# Altium footprint library SOP-8_L4.9-W3.9-P1.27-LS6.0-TL-EP-1_2022-06-29.PcbLib: 1 footprints
Each footprint in its own frame and in the unit in brackets; x right, y up, seen from the top. Pads: shape width x height; smd on the part's side, far side on the other; paste and mask are expansions set on the pad; w line width, h text height; cw(c..) or ccw(c..) is an arc to the next point about the centre after c.
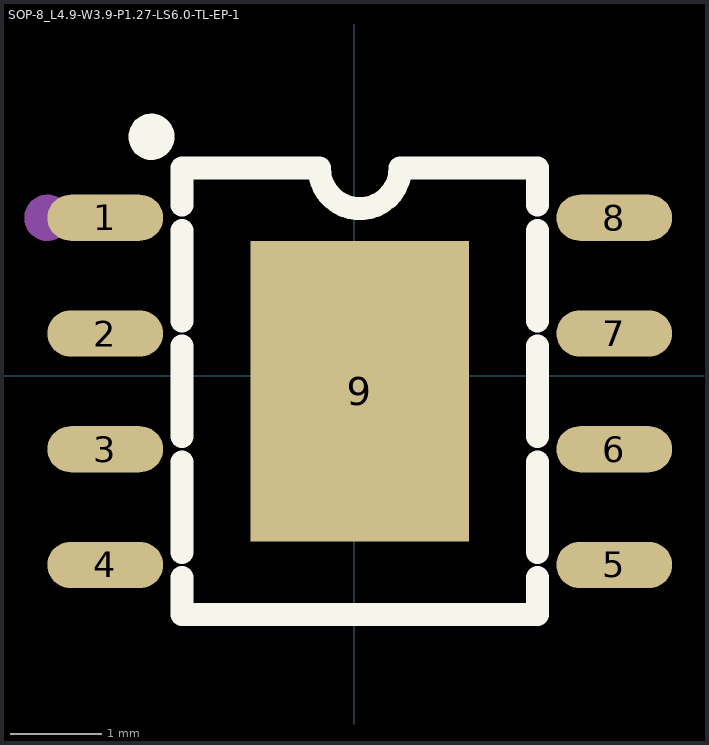
[diagram p0: the footprint, top view; thin cyan lines are the x and y axes]

## SOP-8_L4.9-W3.9-P1.27-LS6.0-TL-EP-1 [mil]
pads (9):
  oval 50x20 smd: 1(-107.5,68.23) 2(-107.5,18.23) 3(-107.5,-31.77) 4(-107.5,-81.77) 5(112.5,-81.77) 6(112.5,-31.77) 7(112.5,18.23) 8(112.5,68.23)
  rect 94.49x129.92 smd: 9(2.5,-6.77)
Top Overlay:
  circle w10: c-87.5,103.23 r5
  lines w10: -74.27,-87.23 -74.27,-103.23 79.27,-103.23 ; -74.27,-76.31 -74.27,-37.23 ; -74.27,-26.31 -74.27,12.77 ; -74.27,23.69 -74.27,62.77 ; -74.27,73.69 -74.27,89.69 -15,89.69 ccw(c2.5,89.69) 20,89.69 79.27,89.69 ; 79.27,-87.23 79.27,-103.23 ; 79.27,-76.31 79.27,-37.23 ; 79.27,-26.31 79.27,12.77 ; 79.27,23.69 79.27,62.77 ; 79.27,73.69 79.27,89.69 ; 79.27,-103.23 79.27,-103.23 ; 79.27,89.69 79.27,89.69
Mechanical 15:
  circle w10: c-132.5,68.23 r5